# EAGLE library part SDA24 (library zetex)
DIODE ARRAY
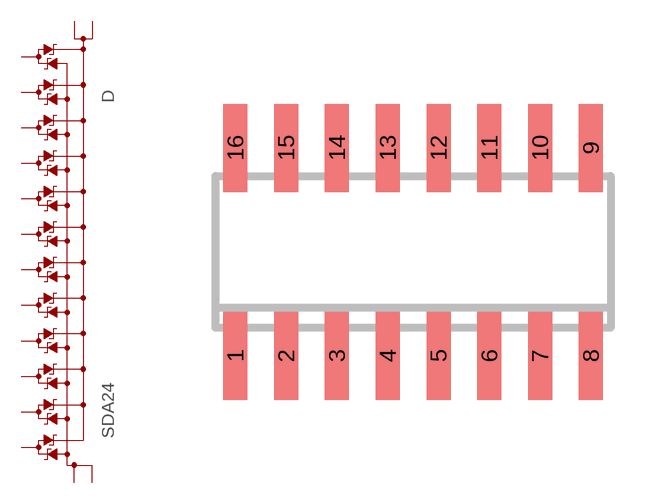
[diagram p8: symbol with the pads of SO16; footprint SO16]

Designator prefix D

## SDA24 (OC_FARNELL: unknown; OC_NEWARK: unknown)  [SO16]
1  V+  pas
2  D01  pas
3  D02  pas
4  D03  pas
5  D04  pas
6  D05  pas
7  D06  pas
8  V-  pas
9  V-1  pas
10  D07  pas
11  D08  pas
12  D09  pas
13  D10  pas
14  D11  pas
15  D12  pas
16  V+1  pas

## Footprint SO16 (pad centres in mm)
SMALL OUTLINE INTEGRATED CIRCUIT body 3.9 mm/JEDEC MS-012AC
smd 0.6 x 2.2: 1 -4.445,-2.6; 2 -3.175,-2.6; 3 -1.905,-2.6; 4 -0.635,-2.6; 5 0.635,-2.6; 6 1.905,-2.6; 7 3.175,-2.6; 8 4.445,-2.6; 9 4.445,2.6; 10 3.175,2.6; 11 1.905,2.6; 12 0.635,2.6; 13 -0.635,2.6; 14 -1.905,2.6; 15 -3.175,2.6; 16 -4.445,2.6